# EAGLE library part LM34910 (library texas)
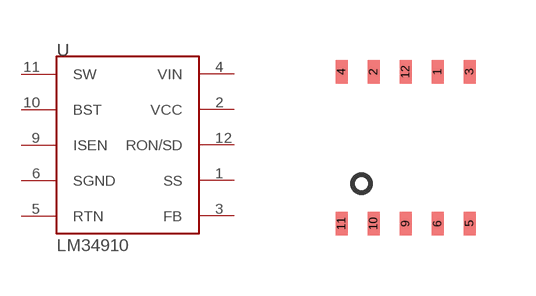
[diagram p121: symbol with the pads of LM34910C; footprint LM34910C]

Designator prefix -

## LM34910  [LM34910C]
1  SS
2  VCC
3  FB
4  VIN
5  RTN
6  SGND
9  ISEN
10  BST
11  SW
12  RON/SD

## Footprint LM34910C (pad centres in mm)
smd 0.3 x 0.6: 1 0.8,1.9; 2 -0.8,1.9; 3 1.6,1.9; 4 -1.6,1.9; 5 1.6,-1.9; 6 0.8,-1.9; 9 0,-1.9; 10 -0.8,-1.9; 11 -1.6,-1.9; 12 0,1.9